# Altium footprint library SR17A1815F89N.PcbLib: 1 footprints
Each footprint in its own frame and in the unit in brackets; x right, y up, seen from the top. Pads: shape width x height; smd on the part's side, far side on the other; paste and mask are expansions set on the pad; w line width, h text height; cw(c..) or ccw(c..) is an arc to the next point about the centre after c.
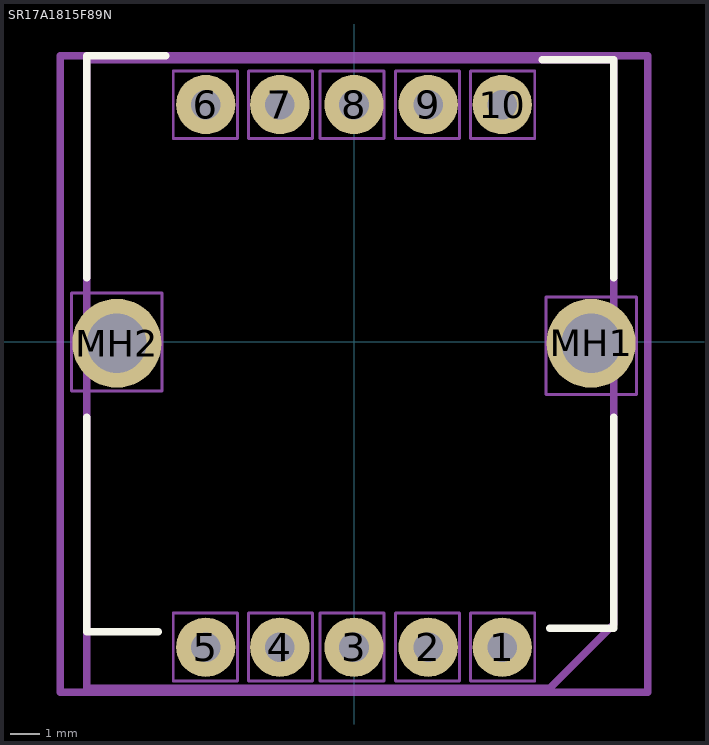
[diagram p0: the footprint, top view; thin cyan lines are the x and y axes]

## SR17A1815F89N [mm]
pads (12):
  round 2 hole 1: 1(5,-10.293) 2(2.5,-10.293) 3(0,-10.293) 4(-2.5,-10.293) 5(-5,-10.293) 6(-5,8.007) 7(-2.5,8.007) 8(0,8.007) 9(2.5,8.007) 10(5,8.007)
  round 3 hole 2: MH1(8,-0.043) MH2(-8,-0.043)
Top Overlay:
  lines w0.254: -9.017,-2.54 -9.017,-9.779 -6.604,-9.779 ; -9.017,2.159 -9.017,9.652 -6.35,9.652 ; 6.35,9.525 8.763,9.525 8.763,2.159 ; 6.604,-9.652 8.763,-9.652 8.763,-2.54
Mechanical 3:
  lines w0.25: -9.017,-11.684 6.604,-11.684 8.763,-9.525 8.763,9.525 -9.017,9.525 -9.017,-11.684
Mechanical 5:
  lines w0.1: -9.525,-1.651 -6.477,-1.651 -6.477,1.651 -9.525,1.651 -9.525,-1.651 ; -6.096,-11.43 -3.937,-11.43 -3.937,-9.144 -6.096,-9.144 -6.096,-11.43 ; -6.096,6.858 -3.937,6.858 -3.937,9.144 -6.096,9.144 -6.096,6.858 ; -3.556,-11.43 -1.397,-11.43 -1.397,-9.144 -3.556,-9.144 -3.556,-11.43 ; -3.556,6.858 -1.397,6.858 -1.397,9.144 -3.556,9.144 -3.556,6.858 ; -1.143,-11.43 1.016,-11.43 1.016,-9.144 -1.143,-9.144 -1.143,-11.43 ; -1.143,6.858 1.016,6.858 1.016,9.144 -1.143,9.144 -1.143,6.858 ; 1.397,-11.43 3.556,-11.43 3.556,-9.144 1.397,-9.144 1.397,-11.43 ; 1.397,6.858 3.556,6.858 3.556,9.144 1.397,9.144 1.397,6.858 ; 3.937,-11.43 6.096,-11.43 6.096,-9.144 3.937,-9.144 3.937,-11.43 ; 3.937,6.858 6.096,6.858 6.096,9.144 3.937,9.144 3.937,6.858 ; 6.477,-1.778 9.525,-1.778 9.525,1.524 6.477,1.524 6.477,-1.778
Mechanical 7:
  lines w0.25: -9.906,-11.811 -9.906,9.652 9.906,9.652 9.906,-11.811 -9.906,-11.811
Mechanical 9:
  text "'.Designator'" at -5.817,-4.462 h1.02
3D body "SRBV181004.STEP": height 23, standoff -3.5, extent -9.1,-10.427 9.1,9.398
3D body: height 23.4, standoff -5, extent -9.906,-11.811 9.906,9.652